# Altium footprint library Diode_THT.PcbLib: 111 footprints (part 6 of 7)
Each footprint in its own frame and in the unit in brackets; x right, y up, seen from the top. Pads: shape width x height; smd on the part's side, far side on the other; paste and mask are expansions set on the pad; w line width, h text height; cw(c..) or ccw(c..) is an arc to the next point about the centre after c.
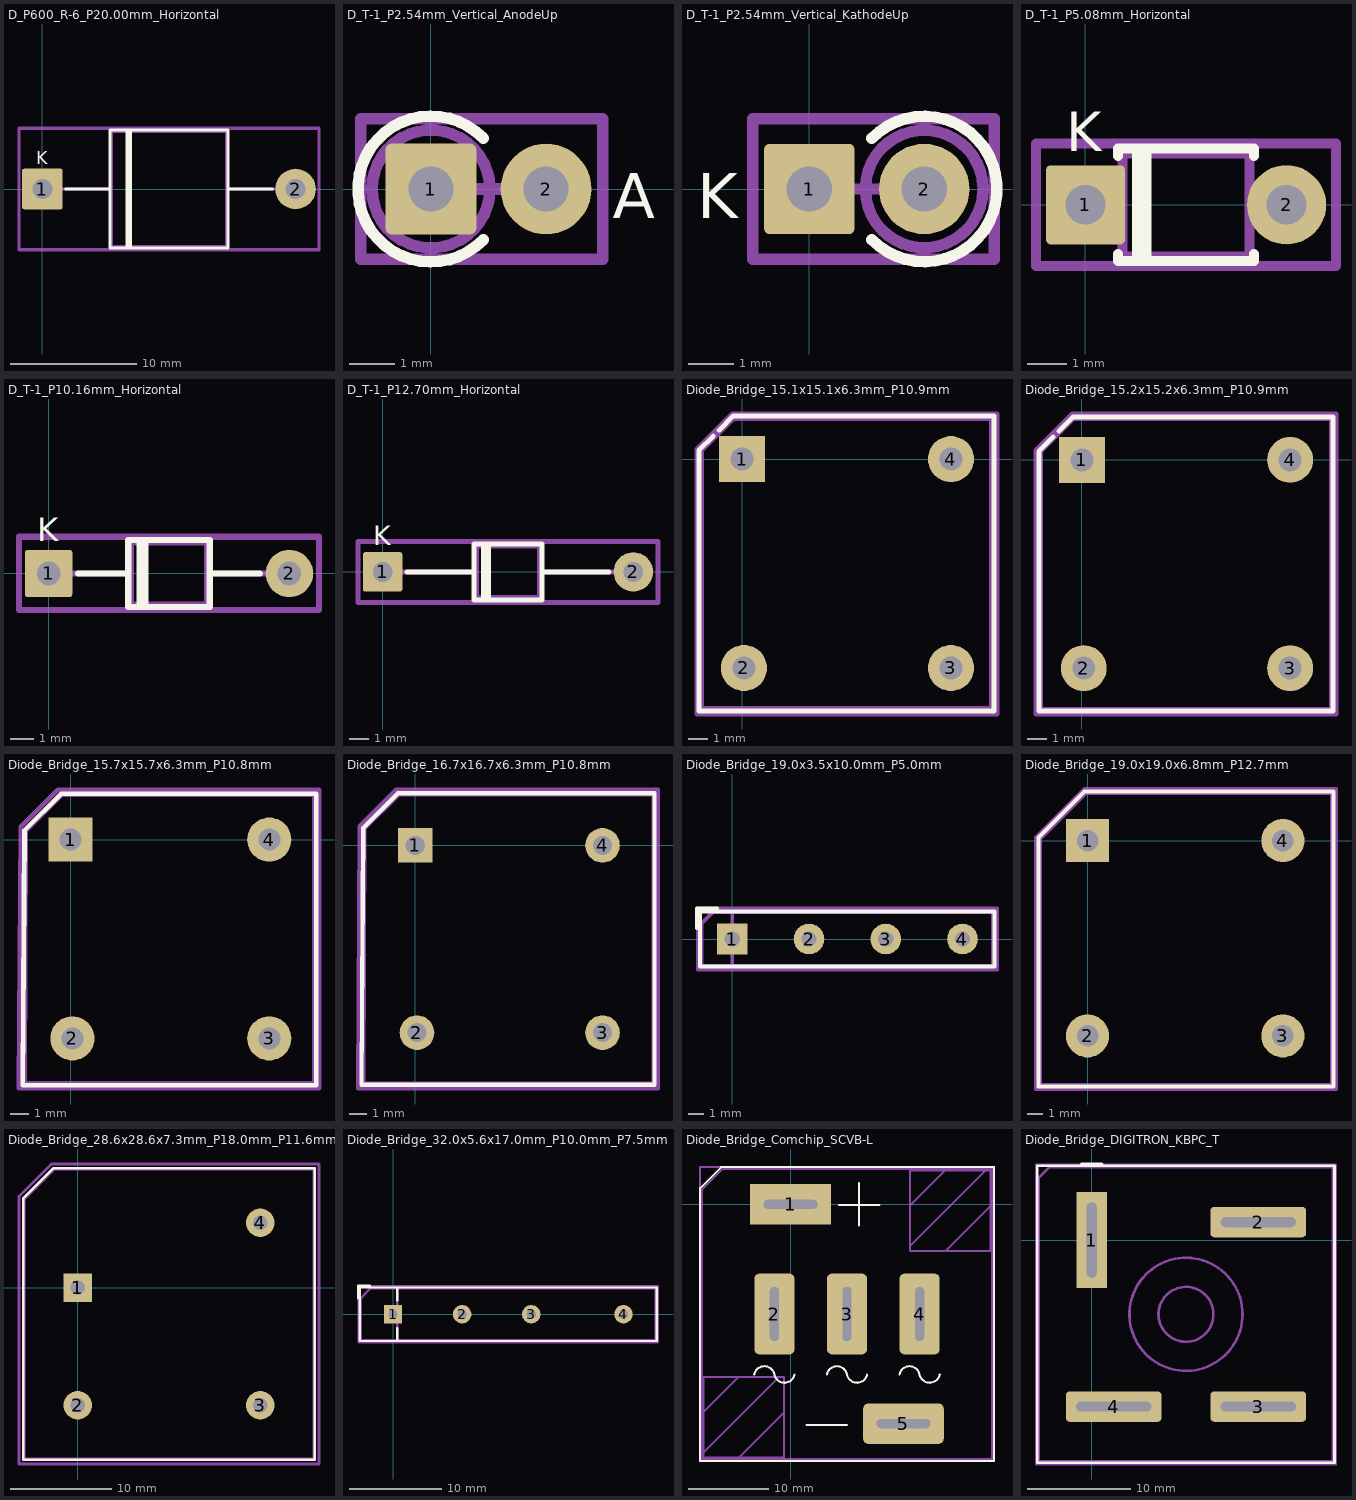
[diagram p5: the footprints below, top view; thin cyan lines are the x and y axes]

## D_P600_R-6_P20.00mm_Horizontal [mm] "D_P600_R-6_P20.00mm_Horizontal"
pads (2):
  rrect8% 3.2x3.2 hole 1.6: 1(0,0)
  round 3.2 hole 1.6: 2(20,0)
F.SilkS:
  lines w0.254: 1.84,0 5.33,0 ; 6.695,-4.67 6.695,4.67 ; 6.815,-4.67 6.815,4.67 ; 6.935,-4.67 6.935,4.67 ; 14.67,0 18.16,0 ; 5.33,-4.67 5.33,4.67 14.67,4.67 14.67,-4.67 5.33,-4.67
  text "K" at -0.483,1.95 h1
Top Component Center:
  lines w0.127: -0.127,0 0.127,0 ; 0,-0.127 0,0.127
Top Assembly:
  lines w0.254: 0,0 5.45,0 ; 6.715,-4.55 6.715,4.55 ; 6.815,-4.55 6.815,4.55 ; 6.915,-4.55 6.915,4.55 ; 14.55,0 20,0 ; 5.45,-4.55 5.45,4.55 14.55,4.55 14.55,-4.55 5.45,-4.55
  text "K" at -0.483,1.95 h1
Top Courtyard:
  lines w0.254: -1.85,-4.8 -1.85,4.8 21.85,4.8 21.85,-4.8 -1.85,-4.8
Top Designator:
  text ".Designator" at 6.566,-0.345 h1.52
3D body "D_P600_R-6_P20.00mm_Horizontal.step": height 9.61, standoff -2.5, extent -0.65,-4.557 20.65,4.557

## D_T-1_P2.54mm_Vertical_AnodeUp [mm] "D_T-1_P2.54mm_Vertical_AnodeUp"
pads (2):
  rrect12% 2x2 hole 1: 1(0,0)
  round 2 hole 1: 2(2.54,0)
F.SilkS:
  lines w0.254: 1.155,-1.12 cw(c0,0) 1.155,1.12
  text "A" at 4.009,-0.65 h1
Top Component Center:
  lines w0.127: -0.127,0 0.127,0 ; 0,-0.127 0,0.127
Top Assembly:
  circle w0.254: c0,0 r1.3
  lines w0.254: 0,0 2.54,0
  text "A" at 4.009,-0.65 h1
Top Courtyard:
  lines w0.254: -1.55,-1.55 -1.55,1.55 3.79,1.55 3.79,-1.55 -1.55,-1.55
Top Designator:
  text ".Designator" at -2.314,0.27 h1.52
3D body "D_T-1_P2.54mm_Vertical_AnodeUp.step": height 5.25, standoff -3, extent -1.31,-1.3 2.89,1.3

## D_T-1_P2.54mm_Vertical_KathodeUp [mm] "D_T-1_P2.54mm_Vertical_KathodeUp"
pads (2):
  rrect12% 2x2 hole 1: 1(0,0)
  round 2 hole 1: 2(2.54,0)
F.SilkS:
  lines w0.254: 1.385,-1.12 ccw(c2.54,0) 1.385,1.12
  text "K" at -2.483,-0.65 h1
Top Component Center:
  lines w0.127: -0.127,0 0.127,0 ; 0,-0.127 0,0.127
Top Assembly:
  circle w0.254: c2.54,0 r1.3
  lines w0.254: 0,0 2.54,0
  text "K" at -2.483,-0.65 h1
Top Courtyard:
  lines w0.254: -1.25,-1.55 4.09,-1.55 4.09,1.55 -1.25,1.55 -1.25,-1.55
Top Designator:
  text ".Designator" at -2.164,0.417 h1.52
3D body "D_T-1_P2.54mm_Vertical_KathodeUp.step": height 5.25, standoff -3, extent -0.35,-1.3 3.85,1.3

## D_T-1_P5.08mm_Horizontal [mm] "D_T-1_P5.08mm_Horizontal"
pads (2):
  rrect12% 2x2 hole 1: 1(0,0)
  round 2 hole 1: 2(5.08,0)
F.SilkS:
  lines w0.254: 0.82,-1.24 0.82,-1.42 4.26,-1.42 4.26,-1.24 ; 0.82,1.24 0.82,1.42 4.26,1.42 4.26,1.24 ; 1.3,-1.42 1.3,1.42 ; 1.42,-1.42 1.42,1.42 ; 1.54,-1.42 1.54,1.42
  text "K" at -0.483,1.35 h1
Top Component Center:
  lines w0.127: -0.127,0 0.127,0 ; 0,-0.127 0,0.127
Top Assembly:
  lines w0.254: 0,0 0.94,0 ; 1.32,-1.3 1.32,1.3 ; 1.42,-1.3 1.42,1.3 ; 1.52,-1.3 1.52,1.3 ; 4.14,0 5.08,0 ; 0.94,-1.3 4.14,-1.3 4.14,1.3 0.94,1.3 0.94,-1.3
  text "K" at -0.483,1.35 h1
Top Courtyard:
  lines w0.254: -1.25,-1.55 6.33,-1.55 6.33,1.55 -1.25,1.55 -1.25,-1.55
Top Designator:
  text ".Designator" at -0.513,-0.472 h1.52
3D body "D_T-1_P5.08mm_Horizontal.step": height 3.11, standoff -2.5, extent -0.35,-1.3 5.43,1.3

## D_T-1_P10.16mm_Horizontal [mm] "D_T-1_P10.16mm_Horizontal"
pads (2):
  rrect12% 2x2 hole 1: 1(0,0)
  round 2 hole 1: 2(10.16,0)
F.SilkS:
  lines w0.254: 1.24,0 3.36,0 ; 3.84,-1.42 3.84,1.42 ; 3.96,-1.42 3.96,1.42 ; 4.08,-1.42 4.08,1.42 ; 6.8,0 8.92,0 ; 3.36,-1.42 6.8,-1.42 6.8,1.42 3.36,1.42 3.36,-1.42
  text "K" at -0.483,1.35 h1
Top Component Center:
  lines w0.127: -0.127,0 0.127,0 ; 0,-0.127 0,0.127
Top Assembly:
  lines w0.254: 0,0 3.48,0 ; 3.86,-1.3 3.86,1.3 ; 3.96,-1.3 3.96,1.3 ; 4.06,-1.3 4.06,1.3 ; 6.68,0 10.16,0 ; 3.48,-1.3 6.68,-1.3 6.68,1.3 3.48,1.3 3.48,-1.3
  text "K" at -0.483,1.35 h1
Top Courtyard:
  lines w0.254: -1.25,-1.55 11.41,-1.55 11.41,1.55 -1.25,1.55 -1.25,-1.55
Top Designator:
  text ".Designator" at 1.646,0.067 h1.52
3D body "D_T-1_P10.16mm_Horizontal.step": height 3.11, standoff -2.5, extent -0.35,-1.3 10.51,1.3

## D_T-1_P12.70mm_Horizontal [mm] "D_T-1_P12.70mm_Horizontal"
pads (2):
  rrect12% 2x2 hole 1: 1(0,0)
  round 2 hole 1: 2(12.7,0)
F.SilkS:
  lines w0.254: 1.24,0 4.63,0 ; 5.11,-1.42 5.11,1.42 ; 5.23,-1.42 5.23,1.42 ; 5.35,-1.42 5.35,1.42 ; 8.07,0 11.46,0 ; 4.63,-1.42 8.07,-1.42 8.07,1.42 4.63,1.42 4.63,-1.42
  text "K" at -0.483,1.35 h1
Top Component Center:
  lines w0.127: -0.127,0 0.127,0 ; 0,-0.127 0,0.127
Top Assembly:
  lines w0.254: 0,0 4.75,0 ; 5.13,-1.3 5.13,1.3 ; 5.23,-1.3 5.23,1.3 ; 5.33,-1.3 5.33,1.3 ; 7.95,0 12.7,0 ; 4.75,-1.3 7.95,-1.3 7.95,1.3 4.75,1.3 4.75,-1.3
  text "K" at -0.483,1.35 h1
Top Courtyard:
  lines w0.254: -1.25,-1.55 13.95,-1.55 13.95,1.55 -1.25,1.55 -1.25,-1.55
Top Designator:
  text ".Designator" at 2.916,0.067 h1.52
3D body "D_T-1_P12.70mm_Horizontal.step": height 3.11, standoff -2.5, extent -0.35,-1.3 13.05,1.3

## Diode_Bridge_15.1x15.1x6.3mm_P10.9mm [mm] "Diode_Bridge_15.1x15.1x6.3mm_P10.9mm"
pads (4):
  rect 2.4x2.4 hole 1.2: 1(0,0)
  round 2.4 hole 1.2: 2(0.1,-10.9) 3(10.9,-10.9) 4(10.9,0)
F.SilkS:
  lines w0.254: -1.5,1.2 -2.25,0.45 -2.25,-13.15 13.15,-13.15 13.15,2.25 -0.45,2.25 -1.2,1.5
Top Component Center:
  lines w0.127: -0.127,0 0.127,0 ; 0,-0.127 0,0.127
Top Assembly:
  lines w0.254: -2.1,-13 13,-13 13,2.1 -0.45,2.1 -2.1,0.45 -2.1,-13
Top Courtyard:
  lines w0.254: -2.35,-13.3 13.3,-13.3 13.3,2.35 -0.5,2.35 -2.35,0.5 -2.35,-13.3
Top Designator:
  text ".Designator" at 2.041,-5.82 h1.52
3D body "Diode_Bridge_15.1x15.1x6.3mm_P10.9mm.step": height 6.4, standoff -9, extent -2.1,-13 13,2.1

## Diode_Bridge_15.2x15.2x6.3mm_P10.9mm [mm] "Diode_Bridge_15.2x15.2x6.3mm_P10.9mm"
pads (4):
  rect 2.4x2.4 hole 1.2: 1(0,0)
  round 2.4 hole 1.2: 2(0.1,-10.9) 3(10.9,-10.9) 4(10.9,0)
F.SilkS:
  lines w0.254: -1.5,1.2 -2.25,0.45 -2.25,-13.15 13.15,-13.15 13.15,2.25 -0.45,2.25 -1.2,1.5
Top Component Center:
  lines w0.127: -0.127,0 0.127,0 ; 0,-0.127 0,0.127
Top Assembly:
  lines w0.254: -2.15,-13.05 13.05,-13.05 13.05,2.15 -0.45,2.15 -2.15,0.45 -2.15,-13.05
Top Courtyard:
  lines w0.254: -2.4,-13.3 13.3,-13.3 13.3,2.4 -0.5,2.4 -2.4,0.5 -2.4,-13.3
Top Designator:
  text ".Designator" at 2.016,-5.795 h1.52
3D body "Diode_Bridge_15.2x15.2x6.3mm_P10.9mm.step": height 6.4, standoff -9, extent -2.15,-13.05 13.05,2.15

## Diode_Bridge_15.7x15.7x6.3mm_P10.8mm [mm] "Diode_Bridge_15.7x15.7x6.3mm_P10.8mm"
pads (4):
  rect 2.4x2.4 hole 1.2: 1(0,0)
  round 2.4 hole 1.2: 2(0.1,-10.8) 3(10.8,-10.8) 4(10.8,0)
F.SilkS:
  lines w0.254: 13.3,-13.35 -2.6,-13.35 -2.5,0.5 -0.5,2.5 13.35,2.5 13.35,-13.35
Top Component Center:
  lines w0.127: -0.127,0 0.127,0 ; 0,-0.127 0,0.127
Top Assembly:
  lines w0.254: -2.5,-13.25 13.25,-13.25 13.25,2.45 -0.45,2.45 -2.45,0.45 -2.5,-13.25
Top Courtyard:
  lines w0.254: -2.8,-13.5 13.5,-13.5 13.5,2.7 -0.7,2.7 -2.7,0.7 -2.8,-13.5
Top Designator:
  text ".Designator" at 1.916,-5.745 h1.52
3D body "Diode_Bridge_15.7x15.7x6.3mm_P10.8mm.step": height 6.4, standoff -9, extent -2.45,-13.25 13.25,2.45

## Diode_Bridge_16.7x16.7x6.3mm_P10.8mm [mm] "Diode_Bridge_16.7x16.7x6.3mm_P10.8mm"
pads (4):
  rect 2x2 hole 1.1: 1(0,0)
  round 2 hole 1.1: 2(0.1,-10.8) 3(10.8,-10.8) 4(10.8,0)
F.SilkS:
  lines w0.254: -3.1,-13.8 -3,1 -1,3 13.8,3 13.8,-13.8 -3.1,-13.8
Top Component Center:
  lines w0.127: -0.127,0 0.127,0 ; 0,-0.127 0,0.127
Top Assembly:
  lines w0.254: -3,-13.75 13.75,-13.75 13.75,2.95 -0.95,2.95 -2.95,0.95 -3,-13.75
Top Courtyard:
  lines w0.254: -3.3,-14 14,-14 14,3.2 -1.1,3.2 -3.2,1.1 -3.3,-14
Top Designator:
  text ".Designator" at 1.916,-5.745 h1.52
3D body "Diode_Bridge_16.7x16.7x6.3mm_P10.8mm.step": height 6.4, standoff -9, extent -2.95,-13.75 13.75,2.95

## Diode_Bridge_19.0x3.5x10.0mm_P5.0mm [mm] "Diode_Bridge_19.0x3.5x10.0mm_P5.0mm"
pads (4):
  rect 2x2 hole 1: 1(0,0)
  round 2 hole 1: 2(5,0) 3(10,0) 4(15,0)
F.SilkS:
  lines w0.254: -2.3,0.7 -2.3,2 -1,2 ; -2.1,-1.8 17.1,-1.8 17.1,1.8 -2.1,1.8 -2.1,-1.8
Top Component Center:
  lines w0.127: -0.127,0 0.127,0 ; 0,-0.127 0,0.127
Top Assembly:
  lines w0.254: 0,-1.75 0,1.75 ; -2,-1.75 17,-1.75 17,1.75 -1.25,1.75 -2,1 -2,-1.75
Top Courtyard:
  lines w0.254: -2.25,-2 17.25,-2 17.25,2 -2.25,2 -2.25,-2
Top Designator:
  text ".Designator" at 4.059,0.798 h1.52
3D body "Diode_Bridge_19.0x3.5x10.0mm_P5.0mm.step": height 11, standoff -7.7, extent -2,-1.75 17,1.75

## Diode_Bridge_19.0x19.0x6.8mm_P12.7mm [mm] "Diode_Bridge_19.0x19.0x6.8mm_P12.7mm"
pads (4):
  rect 2.8x2.8 hole 1.4: 1(0,0)
  round 2.8 hole 1.4: 2(0,-12.7) 3(12.7,-12.7) 4(12.7,0)
F.SilkS:
  lines w0.254: -3.2,-16 16,-16 16,3.2 -0.2,3.2 -3.2,0.2 -3.2,-16
Top Component Center:
  lines w0.127: -0.127,0 0.127,0 ; 0,-0.127 0,0.127
Top Assembly:
  lines w0.254: -3.1,-15.9 15.9,-15.9 15.9,3.1 -0.1,3.1 -3.1,0.1 -3.1,-15.9
Top Courtyard:
  lines w0.254: -3.35,-16.15 16.15,-16.15 16.15,3.35 -0.2,3.35 -3.35,0.2 -3.35,-16.15
Top Designator:
  text ".Designator" at 2.966,-6.745 h1.52
3D body "Diode_Bridge_19.0x19.0x6.8mm_P12.7mm.step": height 6.4, standoff -9, extent -3.1,-15.9 15.9,3.1

## Diode_Bridge_28.6x28.6x7.3mm_P18.0mm_P11.6mm [mm] "Diode_Bridge_28.6x28.6x7.3mm_P18.0mm_P11.6mm"
pads (4):
  rect 2.8x2.8 hole 1.4: 1(0,0)
  round 2.8 hole 1.4: 2(0,-11.6) 3(18,-11.6) 4(18,6.4)
F.SilkS:
  lines w0.254: -5.4,-17 23.4,-17 23.4,11.8 -2.4,11.8 -5.4,8.8 -5.4,-17
Top Component Center:
  lines w0.127: -0.127,0 0.127,0 ; 0,-0.127 0,0.127
Top Assembly:
  lines w0.254: -5.3,-16.9 23.3,-16.9 23.3,11.7 -2.3,11.7 -5.3,8.7 -5.3,-16.9
Top Courtyard:
  lines w0.254: -5.8,-17.4 23.8,-17.4 23.8,12.2 -2.6,12.2 -5.8,9 -5.8,-17.4
Top Designator:
  text ".Designator" at 5.566,-2.945 h1.52
3D body "Diode_Bridge_28.6x28.6x7.3mm_P18.0mm_P11.6mm.step": height 7.4, standoff -9, extent -5.3,-16.9 23.3,11.7

## Diode_Bridge_32.0x5.6x17.0mm_P10.0mm_P7.5mm [mm] "Diode_Bridge_32.0x5.6x17.0mm_P10.0mm_P7.5mm"
pads (4):
  rect 2x2 hole 1: 1(0,0)
  round 2 hole 1: 2(7.5,0) 3(15,0) 4(25,0)
F.SilkS:
  lines w0.254: -3.8,1.7 -3.8,3.1 -2.5,3.1 ; 0.45,-2.9 0.45,-1.5 ; 0.45,1.5 0.45,2.9 ; -3.6,-2.9 28.6,-2.9 28.6,2.9 -3.6,2.9 -3.6,-2.9
Top Component Center:
  lines w0.127: -0.127,0 0.127,0 ; 0,-0.127 0,0.127
Top Assembly:
  lines w0.254: 0.45,-2.8 0.45,2.8 ; -3.5,-2.8 28.5,-2.8 28.5,2.8 -2.5,2.8 -3.5,1.7 -3.5,-2.8
Top Courtyard:
  lines w0.254: -3.75,-3.05 28.75,-3.05 28.75,3.05 -3.75,3.05 -3.75,-3.05
Top Designator:
  text ".Designator" at 7.742,1.306 h1.52
3D body "Diode_Bridge_32.0x5.6x17.0mm_P10.0mm_P7.5mm.step": height 17, standoff -15, extent -3.5,-2.8 28.5,2.8

## Diode_Bridge_Comchip_SCVB-L [mm] "Diode_Bridge_Comchip_SCVB-L"
pads (5):
  rect 10x5 hole 1.1 slot 6.7 at 0 deg: 1(0,0)
  rrect25% 5x10 hole 1.1 slot 6.7 at 90 deg: 2(-2,-13.6) 3(7,-13.6) 4(16,-13.6)
  rrect25% 10x5 hole 1.1 slot 6.7 at 0 deg: 5(14,-27.2)
F.SilkS:
  lines w0.254: -4.5,-21.1 cw(c-3.25,-21.35) -2,-21.1 ; -1.987,-21.159 ccw(c-0.75,-20.85) 0.5,-21.1 ; 2,-27.35 7,-27.35 ; 4.5,-21.1 cw(c5.75,-21.35) 7,-21.1 ; 6,-0.1 11,-0.1 ; 7.013,-21.159 ccw(c8.25,-20.85) 9.5,-21.1 ; 8.5,-2.6 8.5,2.65 ; 13.5,-21.1 cw(c14.75,-21.35) 16,-21.1 ; 16.013,-21.159 ccw(c17.25,-20.85) 18.5,-21.1 ; -11.2,-31.8 25.2,-31.8 25.2,4.6 -8.6,4.6 -11.2,2 -11.2,-31.8
Top Component Center:
  lines w0.127: -0.127,0 0.127,0 ; 0,-0.127 0,0.127
Top Assembly:
  lines w0.254: -11,-31.6 25,-31.6 25,4.4 -8.4,4.4 -11,1.8 -11,-31.6
Top Courtyard:
  lines w0.254: -11.25,-31.85 25.25,-31.85 25.25,4.65 -11.25,4.65 -11.25,-31.85
Top Designator:
  text ".Designator" at 3.297,-7.33 h1.52
Dwgs.User:
  lines w0.254: -10.8,-30.8 -1.4,-21.4 ; -10.8,-25.8 -6.4,-21.4 ; -6.4,-31.4 -0.8,-25.8 ; 14.8,-5.2 24.2,4.2 ; 14.8,-0.2 19.2,4.2 ; 19.2,-5.8 24.8,-0.2 ; -10.8,-31.4 -0.8,-31.4 -0.8,-21.4 -10.8,-21.4 -10.8,-31.4 ; 14.8,-5.8 24.8,-5.8 24.8,4.2 14.8,4.2 14.8,-5.8

## Diode_Bridge_DIGITRON_KBPC_T [mm] "Diode_Bridge_DIGITRON_KBPC_T"
pads (4):
  rect 2.96x9.31 hole 0.96 slot 7.31 at 90 deg: 1(0,0)
  rrect25% 9.31x2.96 hole 0.96 slot 7.31 at 0 deg: 2(16.2,1.75) 3(16.2,-16.2) 4(2.134,-16.2)
F.SilkS:
  lines w0.254: -1,7.4 1,7.4 ; -5.29,-21.682 23.624,-21.682 23.624,7.232 -5.29,7.232 -5.29,-21.682
Top Component Center:
  lines w0.127: -0.127,0 0.127,0 ; 0,-0.127 0,0.127
Top Assembly:
  circle w0.254: c9.167,-7.225 r2.672
  lines w0.254: -5.14,-21.532 23.474,-21.532 23.474,7.082 -4.14,7.082 -5.14,6.082 -5.14,-21.532
  text "-" at 15.622,-14.15 h1
  text "~" at 15.791,-0.446 h1
  text "+" at 1.922,-0.553 h1
  text "~" at 1.841,-14.221 h1
Top Courtyard:
  lines w0.254: -5.39,-21.79 23.73,-21.79 23.73,7.33 -5.39,7.33 -5.39,-21.79
Top Designator:
  text ".Designator" at 5.736,-7.54 h1.52
Cmts.User:
  circle w0.254: c9.167,-7.225 r5.5
  text "(Screw and Washer)" at 5.679,-5.106 h0.5
  text "Mounting Drill Hole" at 4.15,-6.502 h0.8
3D body "Diode_Bridge_DIGITRON_KBPC_T.step": height 10.99, standoff -11.01, extent -5.14,-21.53 23.474,7.08